# Altium schematic symbol library TPS796.SchLib: 1 symbol
Pins are listed as number, name and electrical type; pins without a type are passive.

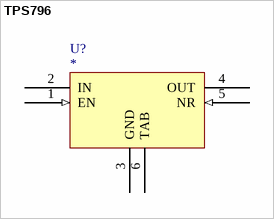
[diagram p0: symbol TPS796]

## TPS796
designator U?
pins: 1 EN (in), 2 IN (power), 3 GND (power), 4 OUT (power), 5 NR (in), 6 TAB (power)